# EAGLE library part 428527320909 (library Switches_rev16a)
WS-RAT-10x10 mm washable THT Rotary Switch,6 pins,8 positions
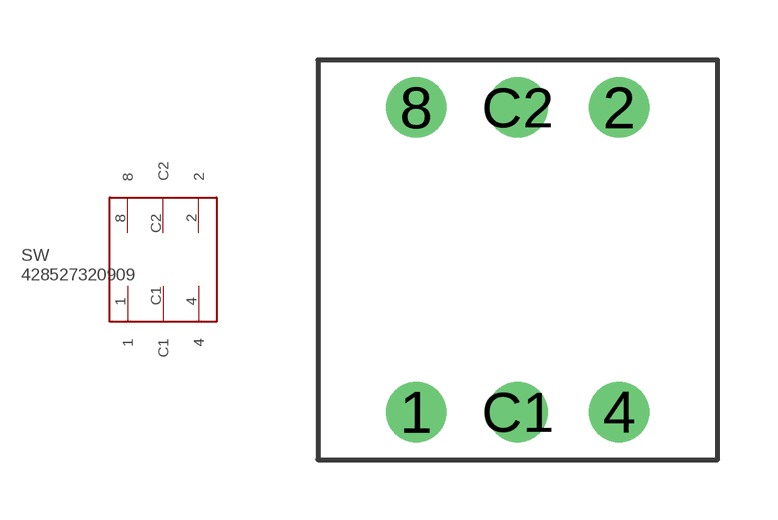
[diagram p149: symbol with the pads of 428527320909; footprint 428527320909]

Designator prefix SW

## 428527320909  [428527320909]
1  1
2  2
4  4
8  8
C1  C1
C2  C2

## Footprint 428527320909 (pad centres in mm)
WS-RAT-10x10 mm washable THT Rotary Switch,6 pins,8 positions
drill 1: 1 -2.54,-3.81; 2 2.54,3.81; 4 2.54,-3.81; 8 -2.54,3.81; C1 0,-3.81; C2 0,3.81